# Altium footprint library SMF_045X.PcbLib: 1 footprints
Each footprint in its own frame and in the unit in brackets; x right, y up, seen from the top. Pads: shape width x height; smd on the part's side, far side on the other; paste and mask are expansions set on the pad; w line width, h text height; cw(c..) or ccw(c..) is an arc to the next point about the centre after c.
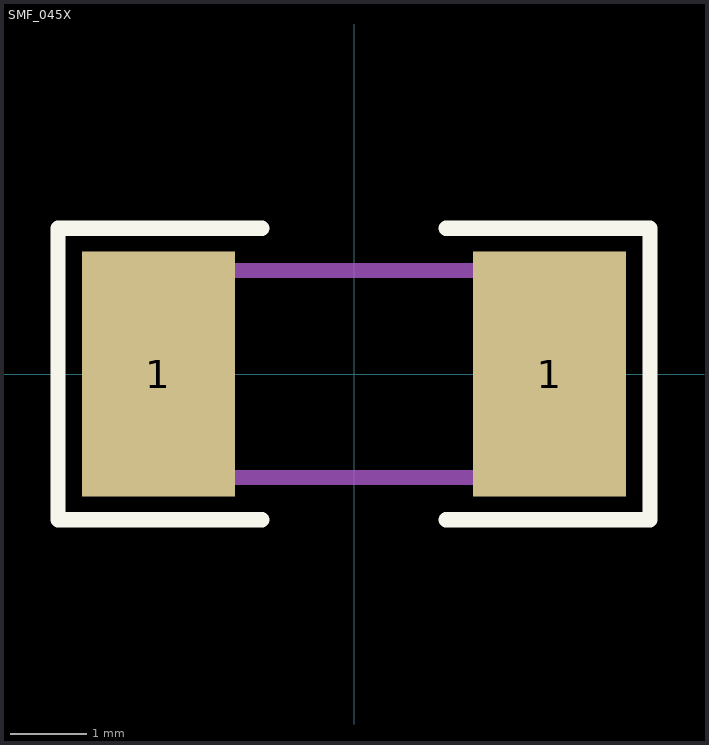
[diagram p0: the footprint, top view; thin cyan lines are the x and y axes]

## SMF_045X [mm]
pads (2):
  rect 2x3.2 smd: 1(-2.55,0) 1(2.55,0)
Top Overlay:
  lines w0.2: -1.2,-1.9 -3.861,-1.9 -3.861,1.9 -1.2,1.9 ; 1.2,-1.9 3.861,-1.9 3.861,1.9 1.2,1.9
Mechanical 13:
  lines w0.2: -3.05,-1.35 -3.05,1.35 3.05,1.35 3.05,-1.35 -3.05,-1.35